# EAGLE library part PCA9846 (library SparkFun-IC-Logic)
NXP Semiconductors PCA9846 - I2C Multiplexer The PCA9846 device has four bidirectional translating switches that can be controlled through the I2C bus. The SCL/SDA upstream pair fans out to four downstream pairs, or channels. Any individual SCn/SDn channel or combination of channels can be selected, determined by the contents of the programmable control register. These downstream channels can be used to resolve I2C address conflicts.
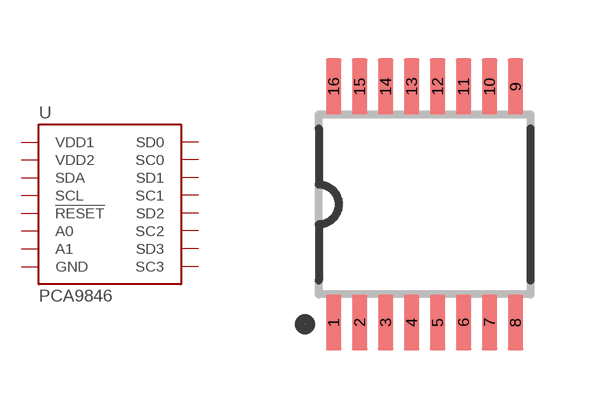
[diagram p15: symbol with the pads of SOT403-1; footprint SOT403-1]

Designator prefix U

## PCA9846 (PROD_ID: IC-18372)  [SOT403-1]
1  VDD1  pwr
2  A0
3  !RESET  in
4  SD0
5  SC0
6  SD1
7  SC1
8  GND  pwr
9  SD2
10  SC2
11  SD3
12  SC3
13  A1
14  SCL
15  SDA
16  VDD2  pwr

## Footprint SOT403-1 (pad centres in mm)
SOT403-1 TSSOP16 thin small outline package
smd 0.4 x 1.4: 1 -2.275,-2.95; 2 -1.625,-2.95; 3 -0.975,-2.95; 4 -0.325,-2.95; 5 0.325,-2.95; 6 0.975,-2.95; 7 1.625,-2.95; 8 2.275,-2.95; 9 2.275,2.95; 10 1.625,2.95; 11 0.975,2.95; 12 0.325,2.95; 13 -0.325,2.95; 14 -0.975,2.95; 15 -1.625,2.95; 16 -2.275,2.95